# Altium footprint library AS7331.PcbLib: 1 footprints
Each footprint in its own frame and in the unit in brackets; x right, y up, seen from the top. Pads: shape width x height; smd on the part's side, far side on the other; paste and mask are expansions set on the pad; w line width, h text height; cw(c..) or ccw(c..) is an arc to the next point about the centre after c.
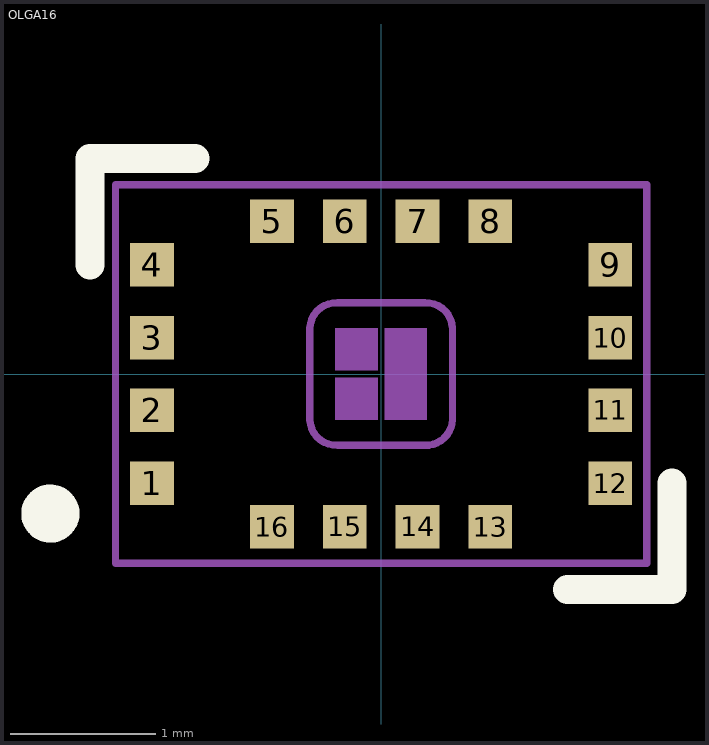
[diagram p0: the footprint, top view; thin cyan lines are the x and y axes]

## OLGA16 [mm]
height 1.1
pads (16):
  rect 0.3x0.3 smd paste+0 mask+0: 1(-1.575,-0.75) 2(-1.575,-0.25) 3(-1.575,0.25) 4(-1.575,0.75) 5(-0.75,1.05) 6(-0.25,1.05) 7(0.25,1.05) 8(0.75,1.05) 9(1.575,0.75) 10(1.575,0.25) 11(1.575,-0.25) 12(1.575,-0.75) 13(0.75,-1.05) 14(0.25,-1.05) 15(-0.25,-1.05) 16(-0.75,-1.05)
Top Overlay:
  circle w0.2: c-2.273,-0.959 r0.1
  lines w0.2: -2,0.75 -2,1.48 -1.28,1.48 ; 1.28,-1.48 2,-1.48 2,-0.75
Top Paste:
  region: -1.455,-0.87 -1.695,-0.87 -1.695,-0.63 -1.455,-0.63
  region: -1.455,-0.37 -1.695,-0.37 -1.695,-0.13 -1.455,-0.13
  region: -1.455,0.13 -1.695,0.13 -1.695,0.37 -1.455,0.37
  region: -1.455,0.63 -1.695,0.63 -1.695,0.87 -1.455,0.87
  region: -0.63,0.93 -0.87,0.93 -0.87,1.17 -0.63,1.17
  region: -0.13,0.93 -0.37,0.93 -0.37,1.17 -0.13,1.17
  region: 0.37,0.93 0.13,0.93 0.13,1.17 0.37,1.17
  region: 0.87,0.93 0.63,0.93 0.63,1.17 0.87,1.17
  region: 1.695,0.63 1.455,0.63 1.455,0.87 1.695,0.87
  region: 1.695,0.13 1.455,0.13 1.455,0.37 1.695,0.37
  region: 1.695,-0.37 1.455,-0.37 1.455,-0.13 1.695,-0.13
  region: 1.695,-0.87 1.455,-0.87 1.455,-0.63 1.695,-0.63
  region: 0.87,-1.17 0.63,-1.17 0.63,-0.93 0.87,-0.93
  region: 0.37,-1.17 0.13,-1.17 0.13,-0.93 0.37,-0.93
  region: -0.13,-1.17 -0.37,-1.17 -0.37,-0.93 -0.13,-0.93
  region: -0.63,-1.17 -0.87,-1.17 -0.87,-0.93 -0.63,-0.93
Top Solder:
  region: -1.375,-0.95 -1.775,-0.95 -1.775,-0.55 -1.375,-0.55
  region: -1.375,-0.45 -1.775,-0.45 -1.775,-0.05 -1.375,-0.05
  region: -1.375,0.05 -1.775,0.05 -1.775,0.45 -1.375,0.45
  region: -1.375,0.55 -1.775,0.55 -1.775,0.95 -1.375,0.95
  region: -0.55,0.85 -0.95,0.85 -0.95,1.25 -0.55,1.25
  region: -0.05,0.85 -0.45,0.85 -0.45,1.25 -0.05,1.25
  region: 0.45,0.85 0.05,0.85 0.05,1.25 0.45,1.25
  region: 0.95,0.85 0.55,0.85 0.55,1.25 0.95,1.25
  region: 1.775,0.55 1.375,0.55 1.375,0.95 1.775,0.95
  region: 1.775,0.05 1.375,0.05 1.375,0.45 1.775,0.45
  region: 1.775,-0.45 1.375,-0.45 1.375,-0.05 1.775,-0.05
  region: 1.775,-0.95 1.375,-0.95 1.375,-0.55 1.775,-0.55
  region: 0.95,-1.25 0.55,-1.25 0.55,-0.85 0.95,-0.85
  region: 0.45,-1.25 0.05,-1.25 0.05,-0.85 0.45,-0.85
  region: -0.05,-1.25 -0.45,-1.25 -0.45,-0.85 -0.05,-0.85
  region: -0.55,-1.25 -0.95,-1.25 -0.95,-0.85 -0.55,-0.85
Mechanical 13:
  region: -0.025,-0.315 -0.315,-0.315 -0.315,-0.025 -0.025,-0.025
  region: -0.025,0.025 -0.315,0.025 -0.315,0.315 -0.025,0.315
  region: 0.315,-0.315 0.025,-0.315 0.025,0.315 0.315,0.315
  lines w0.05: -0.49,-0.315 ccw(c-0.307,-0.307) -0.3,-0.49 0.3,-0.49 ccw(c0.307,-0.307) 0.49,-0.315 0.49,0.315 ccw(c0.307,0.307) 0.3,0.49 -0.3,0.49 ccw(c-0.307,0.307) -0.49,0.315 -0.49,-0.315
Mechanical 15:
  lines w0.05: -1.825,-1.3 1.825,-1.3 1.825,1.3 -1.825,1.3 -1.825,-1.3
3D body "AS7331-AQFM.stp": height 1.19, standoff 0, extent -1.825,-1.3 1.825,1.3